# EAGLE library part NV08C-CSM (library UPRA_GPS_Modules)
NV08C-CSM GPS Module Max. altitude: 50000m Discontinued! Use uBlox NEO xM series!
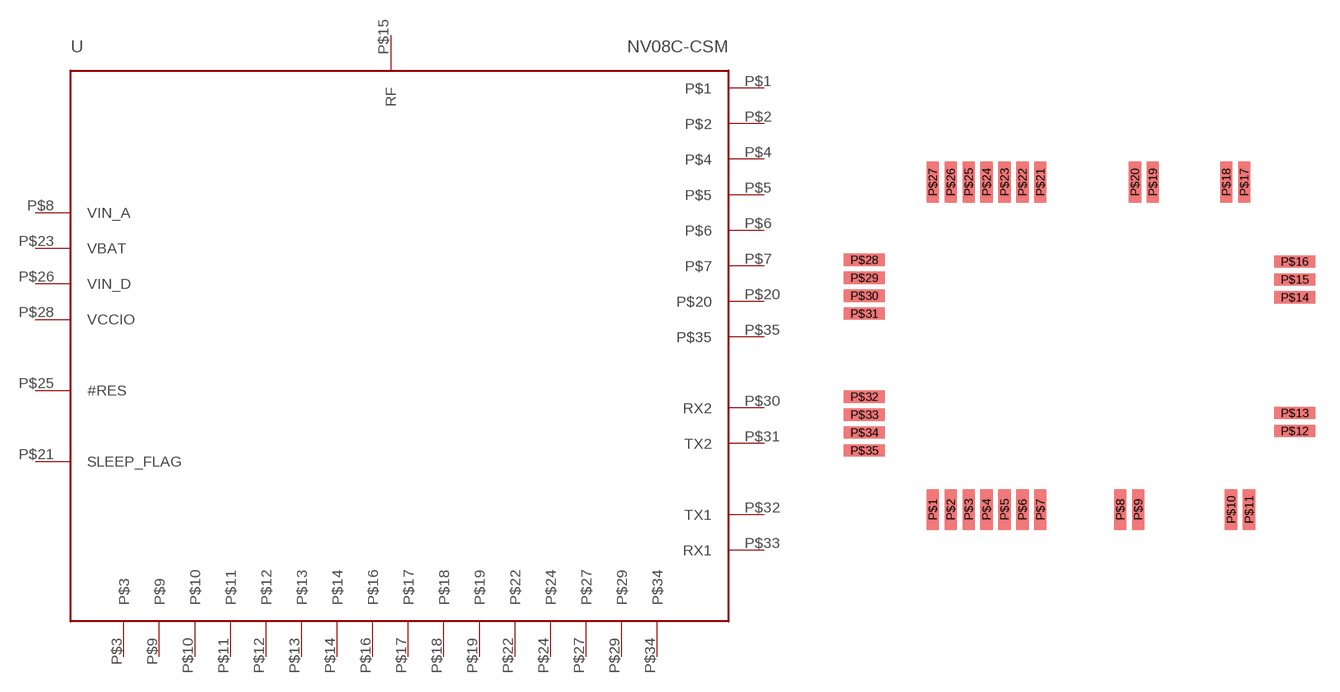
[diagram p2: symbol with the pads of NV08C-CSM; footprint NV08C-CSM]

Designator prefix U

## NV08C-CSM-STANDALONE (MAX_ALTITUDE: 50000m)  [NV08C-CSM]
P$1  P$1
P$2  P$2
P$3  P$3  sup
P$4  P$4
P$5  P$5
P$6  P$6
P$7  P$7
P$8  VIN_A  sup
P$9  P$9  sup
P$10  P$10  sup
P$11  P$11  sup
P$12  P$12  sup
P$13  P$13  sup
P$14  P$14  sup
P$15  RF
P$16  P$16  sup
P$17  P$17  sup
P$18  P$18  sup
P$19  P$19  sup
P$20  P$20  out
P$21  SLEEP_FLAG  out
P$22  P$22
P$23  VBAT  sup
P$24  P$24
P$25  #RES  in
P$26  VIN_D  sup
P$27  P$27
P$28  VCCIO  sup
P$29  P$29
P$30  RX2  in
P$31  TX2  out
P$32  TX1  out
P$33  RX1  in
P$34  P$34
P$35  P$35

## Footprint NV08C-CSM (pad centres in mm)
smd 0.75 x 2.5: P$1 3.95,0.02; P$2 5.05,0.02; P$3 6.15,0.02; P$4 7.25,0.02; P$5 8.35,0.02; P$6 9.45,0.02; P$7 10.55,0.02; P$8 15.45,0.02; P$9 16.55,0.02; P$10 22.25,0.02; P$11 23.35,0.02; P$17 23.05,20.12; P$18 21.95,20.12; P$19 17.45,20.12; P$20 16.35,20.12; P$21 10.55,20.12; P$22 9.45,20.12; P$23 8.35,20.12; P$24 7.25,20.12; P$25 6.15,20.12; P$26 5.05,20.12; P$27 3.95,20.12
smd 2.5 x 0.75: P$12 26.15,4.85; P$13 26.15,5.95; P$14 26.15,13.05; P$15 26.15,14.15; P$16 26.15,15.25; P$28 -0.25,15.35; P$29 -0.25,14.25; P$30 -0.25,13.15; P$31 -0.25,12.05; P$32 -0.25,6.95; P$33 -0.25,5.85; P$34 -0.25,4.75; P$35 -0.25,3.65